# Altium schematic symbol library SCH - MCU - NUVOTON - NUVOTON NUC125LC2AE.SchLib: 1 symbol
Pins are listed as number, name and electrical type; pins without a type are passive.

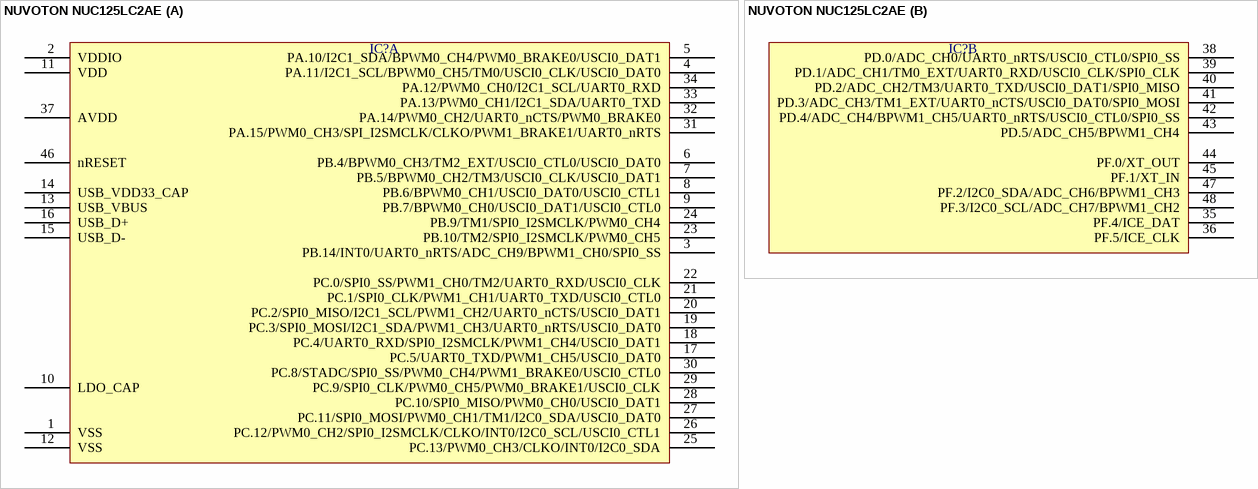
[diagram p0: symbol NUVOTON NUC125LC2AE]

## NUVOTON NUC125LC2AE
designator IC?  (value not drawn)
part A pins: 1 VSS, 2 VDDIO, 3 PB.14/INT0/UART0_nRTS/ADC_CH9/BPWM1_CH0/SPI0_SS, 4 PA.11/I2C1_SCL/BPWM0_CH5/TM0/USCI0_CLK/USCI0_DAT0, 5 PA.10/I2C1_SDA/BPWM0_CH4/PWM0_BRAKE0/USCI0_DAT1, 6 PB.4/BPWM0_CH3/TM2_EXT/USCI0_CTL0/USCI0_DAT0, 7 PB.5/BPWM0_CH2/TM3/USCI0_CLK/USCI0_DAT1, 8 PB.6/BPWM0_CH1/USCI0_DAT0/USCI0_CTL1, 9 PB.7/BPWM0_CH0/USCI0_DAT1/USCI0_CTL0, 10 LDO_CAP, 11 VDD, 12 VSS, 13 USB_VBUS, 14 USB_VDD33_CAP, 15 USB_D-, 16 USB_D+, 17 PC.5/UART0_TXD/PWM1_CH5/USCI0_DAT0, 18 PC.4/UART0_RXD/SPI0_I2SMCLK/PWM1_CH4/USCI0_DAT1, 19 PC.3/SPI0_MOSI/I2C1_SDA/PWM1_CH3/UART0_nRTS/USCI0_DAT0, 20 PC.2/SPI0_MISO/I2C1_SCL/PWM1_CH2/UART0_nCTS/USCI0_DAT1, 21 PC.1/SPI0_CLK/PWM1_CH1/UART0_TXD/USCI0_CTL0, 22 PC.0/SPI0_SS/PWM1_CH0/TM2/UART0_RXD/USCI0_CLK, 23 PB.10/TM2/SPI0_I2SMCLK/PWM0_CH5, 24 PB.9/TM1/SPI0_I2SMCLK/PWM0_CH4, 25 PC.13/PWM0_CH3/CLKO/INT0/I2C0_SDA, 26 PC.12/PWM0_CH2/SPI0_I2SMCLK/CLKO/INT0/I2C0_SCL/USCI0_CTL1, 27 PC.11/SPI0_MOSI/PWM0_CH1/TM1/I2C0_SDA/USCI0_DAT0, 28 PC.10/SPI0_MISO/PWM0_CH0/USCI0_DAT1, 29 PC.9/SPI0_CLK/PWM0_CH5/PWM0_BRAKE1/USCI0_CLK, 30 PC.8/STADC/SPI0_SS/PWM0_CH4/PWM1_BRAKE0/USCI0_CTL0, 31 PA.15/PWM0_CH3/SPI_I2SMCLK/CLKO/PWM1_BRAKE1/UART0_nRTS, 32 PA.14/PWM0_CH2/UART0_nCTS/PWM0_BRAKE0, 33 PA.13/PWM0_CH1/I2C1_SDA/UART0_TXD, 34 PA.12/PWM0_CH0/I2C1_SCL/UART0_RXD, 37 AVDD, 46 nRESET
part B pins: 35 PF.4/ICE_DAT, 36 PF.5/ICE_CLK, 38 PD.0/ADC_CH0/UART0_nRTS/USCI0_CTL0/SPI0_SS, 39 PD.1/ADC_CH1/TM0_EXT/UART0_RXD/USCI0_CLK/SPI0_CLK, 40 PD.2/ADC_CH2/TM3/UART0_TXD/USCI0_DAT1/SPI0_MISO, 41 PD.3/ADC_CH3/TM1_EXT/UART0_nCTS/USCI0_DAT0/SPI0_MOSI, 42 PD.4/ADC_CH4/BPWM1_CH5/UART0_nRTS/USCI0_CTL0/SPI0_SS, 43 PD.5/ADC_CH5/BPWM1_CH4, 44 PF.0/XT_OUT, 45 PF.1/XT_IN, 47 PF.2/I2C0_SDA/ADC_CH6/BPWM1_CH3, 48 PF.3/I2C0_SCL/ADC_CH7/BPWM1_CH2